# EAGLE library part CS4412 (library bnahill)
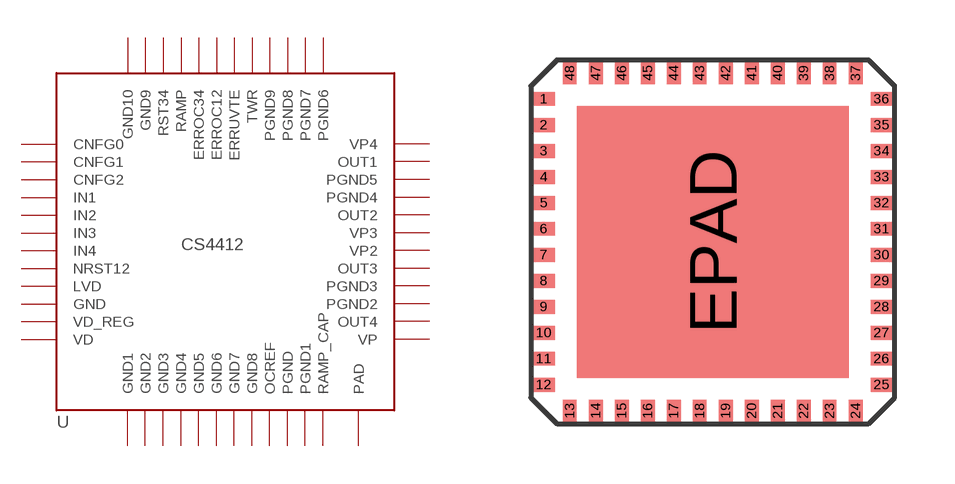
[diagram p10: symbol with the pads of QFN48-9X9; footprint QFN48-9X9]

Designator prefix -

## CS4412  [QFN48-9X9]
1  CNFG0
2  CNFG1
3  CNFG2
4  IN1
5  IN2
6  IN3
7  IN4
8  NRST12
9  LVD
10  GND
11  VD_REG
12  VD
13  GND1
14  GND2
15  GND3
16  GND4
17  GND5
18  GND6
19  GND7
20  GND8
21  OCREF
22  PGND
23  PGND1
24  RAMP_CAP
25  VP
26  OUT4
27  PGND2
28  PGND3
29  OUT3
30  VP2
31  VP3
32  OUT2
33  PGND4
34  PGND5
35  OUT1
36  VP4
37  PGND6
38  PGND7
39  PGND8
40  PGND9
41  TWR
42  ERRUVTE
43  ERROC12
44  ERROC34
45  RAMP
46  RST34
47  GND9
48  GND10
EPAD  PAD

## Footprint QFN48-9X9 (pad centres in mm)
smd 0.55 x 0.35: 1 -4.225,3.575; 2 -4.225,2.925; 3 -4.225,2.275; 4 -4.225,1.625; 5 -4.225,0.975; 6 -4.225,0.325; 7 -4.225,-0.325; 8 -4.225,-0.975; 9 -4.225,-1.625; 10 -4.225,-2.275; 11 -4.225,-2.925; 12 -4.225,-3.575; 25 4.225,-3.575; 26 4.225,-2.925; 27 4.225,-2.275; 28 4.225,-1.625; 29 4.225,-0.975; 30 4.225,-0.325; 31 4.225,0.325; 32 4.225,0.975; 33 4.225,1.625; 34 4.225,2.275; 35 4.225,2.925; 36 4.225,3.575
smd 0.35 x 0.55: 13 -3.575,-4.225; 14 -2.925,-4.225; 15 -2.275,-4.225; 16 -1.625,-4.225; 17 -0.975,-4.225; 18 -0.325,-4.225; 19 0.325,-4.225; 20 0.975,-4.225; 21 1.625,-4.225; 22 2.275,-4.225; 23 2.925,-4.225; 24 3.575,-4.225; 37 3.575,4.225; 38 2.925,4.225; 39 2.275,4.225; 40 1.625,4.225; 41 0.975,4.225; 42 0.325,4.225; 43 -0.325,4.225; 44 -0.975,4.225; 45 -1.625,4.225; 46 -2.275,4.225; 47 -2.925,4.225; 48 -3.575,4.225
smd 6.8 x 6.8: EPAD 0,0